# Altium schematic symbol library DIODE-4.SchLib: 1 symbol
Pins are listed as number, name and electrical type; pins without a type are passive.

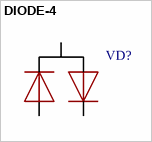
[diagram p0: symbol DIODE-4]

## DIODE-4
designator VD?
pins: 1 A, 2 C, 3 x